# EAGLE library part AD5440YRUZ (library SSv3_1)
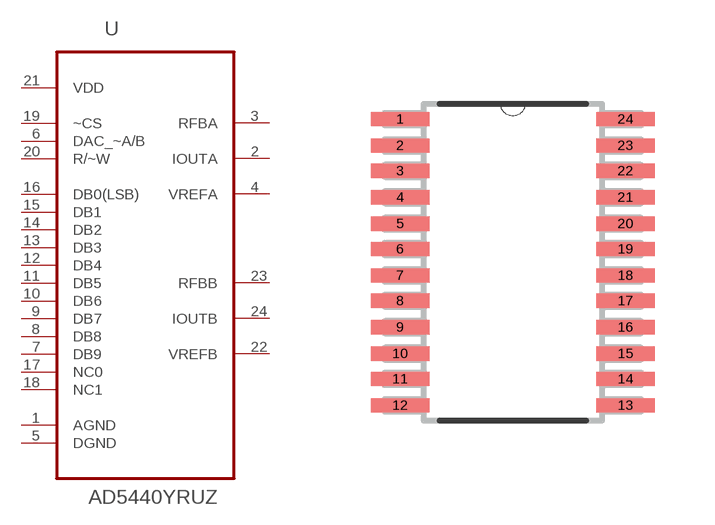
[diagram p10: symbol with the pads of SOP65P640X120-24N; footprint SOP65P640X120-24N]

Designator prefix -

## AD5440YRUZTSSOP-24  [SOP65P640X120-24N]
1  AGND  pas
2  IOUTA  out
3  RFBA  pas
4  VREFA  in
5  DGND  pas
6  DAC_~A/B  in
7  DB9
8  DB8
9  DB7
10  DB6
11  DB5
12  DB4
13  DB3
14  DB2
15  DB1
16  DB0(LSB)
17  NC0
18  NC1
19  ~CS  in
20  R/~W  in
21  VDD  pwr
22  VREFB  in
23  RFBB  pas
24  IOUTB  out

## Footprint SOP65P640X120-24N (pad centres in mm)
smd 1.473 x 0.356: 1 -2.819,3.581; 2 -2.819,2.921; 3 -2.819,2.286; 4 -2.819,1.626; 5 -2.819,0.965; 6 -2.819,0.33; 7 -2.819,-0.33; 8 -2.819,-0.965; 9 -2.819,-1.626; 10 -2.819,-2.286; 11 -2.819,-2.921; 12 -2.819,-3.581; 13 2.819,-3.581; 14 2.819,-2.921; 15 2.819,-2.286; 16 2.819,-1.626; 17 2.819,-0.965; 18 2.819,-0.33; 19 2.819,0.33; 20 2.819,0.965; 21 2.819,1.626; 22 2.819,2.286; 23 2.819,2.921; 24 2.819,3.581